# Altium footprint library SOT65P215X100-6N.PcbLib: 1 footprints
Each footprint in its own frame and in the unit in brackets; x right, y up, seen from the top. Pads: shape width x height; smd on the part's side, far side on the other; paste and mask are expansions set on the pad; w line width, h text height; cw(c..) or ccw(c..) is an arc to the next point about the centre after c.
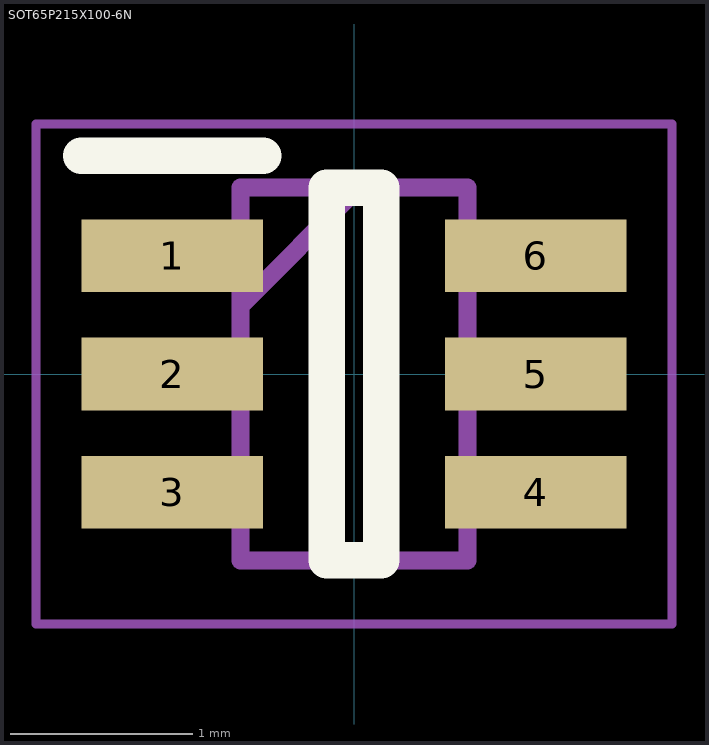
[diagram p0: the footprint, top view; thin cyan lines are the x and y axes]

## SOT65P215X100-6N [mm]
pads (6):
  rect 1x0.4 smd: 1(-1,0.65) 2(-1,0) 3(-1,-0.65) 4(1,-0.65) 5(1,0) 6(1,0.65)
Top Overlay:
  lines w0.2: -1.5,1.2 -0.5,1.2 ; -0.15,-1.025 0.15,-1.025 0.15,1.025 -0.15,1.025 -0.15,-1.025
Mechanical 15:
  lines w0.1: -0.625,0.375 0.025,1.025 ; -0.625,-1.025 0.625,-1.025 0.625,1.025 -0.625,1.025 -0.625,-1.025
Mechanical 20:
  lines w0.05: -1.75,-1.375 1.75,-1.375 1.75,1.375 -1.75,1.375 -1.75,-1.375